# Altium schematic symbol library QUTMS_ScreenLibrary.SchLib: 1 symbol
Pins are listed as number, name and electrical type; pins without a type are passive.

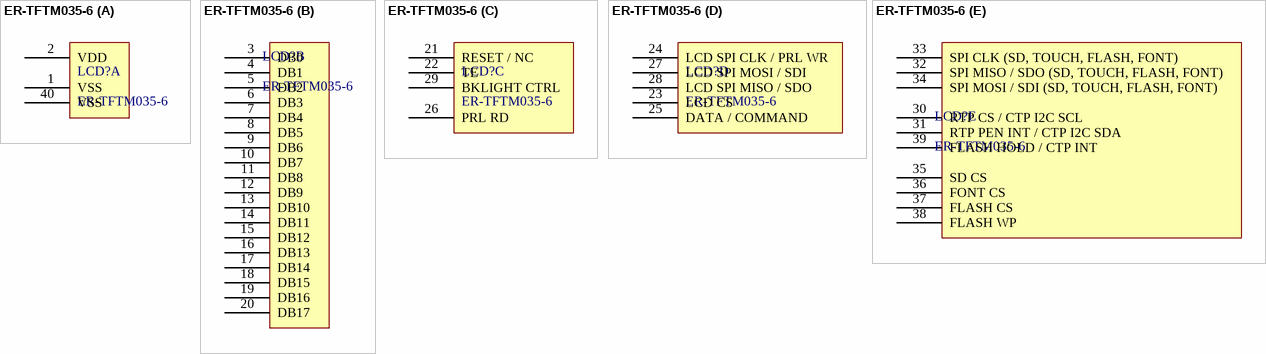
[diagram p0: symbol ER-TFTM035-6]

## ER-TFTM035-6
designator LCD?
LCD 3.5" 320x480 TFT Display Module, OPTL Touch Screen w/Breakout Board; ComponentLink1Description: Website; ComponentLink1URL: https://www.buydisplay.com/lcd-3-5-inch-320x480-tft-display-module-optl-touch-screen-w-breakout-board
footprint ER-TFTM035-6
part A pins: 1 VSS, 2 VDD, 40 VSS
part B pins: 3 DB0, 4 DB1, 5 DB2, 6 DB3, 7 DB4, 8 DB5, 9 DB6, 10 DB7, 11 DB8, 12 DB9, 13 DB10, 14 DB11, 15 DB12, 16 DB13, 17 DB14, 18 DB15, 19 DB16, 20 DB17
part C pins: 21 RESET / NC, 22 TE, 26 PRL RD, 29 BKLIGHT CTRL
part D pins: 23 LCD CS, 24 LCD SPI CLK / PRL WR, 25 DATA / COMMAND, 27 LCD SPI MOSI / SDI, 28 LCD SPI MISO / SDO
part E pins: 30 RTP CS / CTP I2C SCL, 31 RTP PEN INT / CTP I2C SDA, 32 SPI MISO / SDO (SD, TOUCH, FLASH, FONT), 33 SPI CLK (SD, TOUCH, FLASH, FONT), 34 SPI MOSI / SDI (SD, TOUCH, FLASH, FONT), 35 SD CS, 36 FONT CS, 37 FLASH CS, 38 FLASH WP, 39 FLASH HOLD / CTP INT